# Altium schematic symbol library AMC1117.SchLib: 1 symbol
Pins are listed as number, name and electrical type; pins without a type are passive.

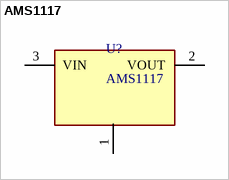
[diagram p0: symbol AMS1117]

## AMS1117
designator U?
footprint SOT-223-3
footprint SOT-223
footprint SOT-89
pins: 1 Ground (power), 2 VOUT, 3 VIN (power)